# Altium schematic symbol library LM340.Schlib: 1 symbol
Pins are listed as number, name and electrical type; pins without a type are passive.

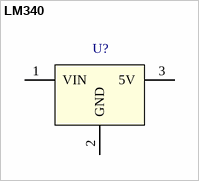
[diagram p0: symbol LM340]

## LM340
designator U?  (value not drawn)
Linear Regulator, 5V, 1.5A output
pins: 1 VIN, 2 GND, 3 5V